# EAGLE library part AT32UC3B1 (library U-AVR32)
AT32UB3C1[64|128|256|512] 7-Channel 20-bit Pulse Width Modulation Controller (PWM) Master/Slave Two-Wire Interface (TWI), 400kbit/s I2C-compatible 6-channel 10-bit Analog-To-Digital Converter, 384ks/s On-Chip Debug System (JTAG interface) two UARTS, RS485 Interfaces
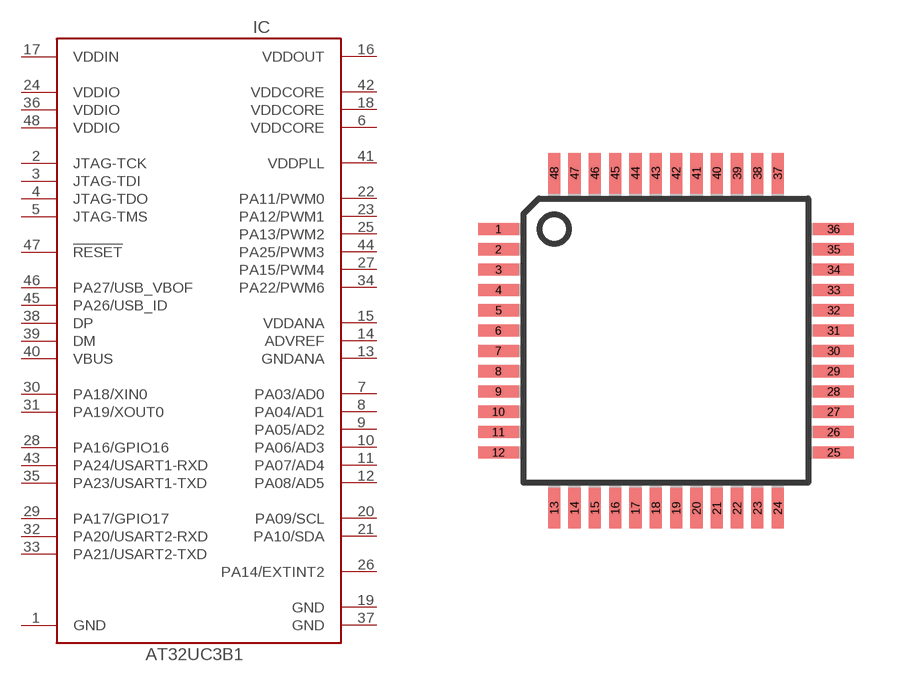
[diagram p1: symbol with the pads of TQFP48; footprint TQFP48]

Designator prefix IC

## AT32UC3B164  [TQFP48]
1  GND
2  JTAG-TCK
3  JTAG-TDI
4  JTAG-TDO
5  JTAG-TMS
6  VDDCORE
7  PA03/AD0
8  PA04/AD1
9  PA05/AD2
10  PA06/AD3
11  PA07/AD4
12  PA08/AD5
13  GNDANA
14  ADVREF
15  VDDANA
16  VDDOUT
17  VDDIN
18  VDDCORE
19  GND
20  PA09/SCL
21  PA10/SDA
22  PA11/PWM0
23  PA12/PWM1
24  VDDIO
25  PA13/PWM2
26  PA14/EXTINT2
27  PA15/PWM4
28  PA16/GPIO16
29  PA17/GPIO17
30  PA18/XIN0
31  PA19/XOUT0
32  PA20/USART2-RXD
33  PA21/USART2-TXD
34  PA22/PWM6
35  PA23/USART1-TXD
36  VDDIO
37  GND
38  DP
39  DM
40  VBUS
41  VDDPLL
42  VDDCORE
43  PA24/USART1-RXD
44  PA25/PWM3
45  PA26/USB_ID
46  PA27/USB_VBOF
47  !RESET
48  VDDIO

## AT32UC3B1128  [TQFP48]
Pads as for TQFP48

## AT32UC3B1256  [TQFP48]
Pads as for TQFP48

## AT32UC3B1512  [TQFP48]
Pads as for TQFP48

## Footprint TQFP48 (pad centres in mm)
Thin Plasic Quad Flat Package
smd 1.016 x 0.305: 1 -4.191,2.794; 2 -4.191,2.286; 3 -4.191,1.778; 4 -4.191,1.27; 5 -4.191,0.762; 6 -4.191,0.254; 7 -4.191,-0.254; 8 -4.191,-0.762; 9 -4.191,-1.27; 10 -4.191,-1.778; 11 -4.191,-2.286; 12 -4.191,-2.794; 25 4.191,-2.794; 26 4.191,-2.286; 27 4.191,-1.778; 28 4.191,-1.27; 29 4.191,-0.762; 30 4.191,-0.254; 31 4.191,0.254; 32 4.191,0.762; 33 4.191,1.27; 34 4.191,1.778; 35 4.191,2.286; 36 4.191,2.794
smd 0.305 x 1.016: 13 -2.794,-4.191; 14 -2.286,-4.191; 15 -1.778,-4.191; 16 -1.27,-4.191; 17 -0.762,-4.191; 18 -0.254,-4.191; 19 0.254,-4.191; 20 0.762,-4.191; 21 1.27,-4.191; 22 1.778,-4.191; 23 2.286,-4.191; 24 2.794,-4.191; 37 2.794,4.191; 38 2.286,4.191; 39 1.778,4.191; 40 1.27,4.191; 41 0.762,4.191; 42 0.254,4.191; 43 -0.254,4.191; 44 -0.762,4.191; 45 -1.27,4.191; 46 -1.778,4.191; 47 -2.286,4.191; 48 -2.794,4.191